# Altium footprint library 排针 - 副本.PCBLIB: 50 footprints (part 3 of 4)
Each footprint in its own frame and in the unit in brackets; x right, y up, seen from the top. Pads: shape width x height; smd on the part's side, far side on the other; paste and mask are expansions set on the pad; w line width, h text height; cw(c..) or ccw(c..) is an arc to the next point about the centre after c.
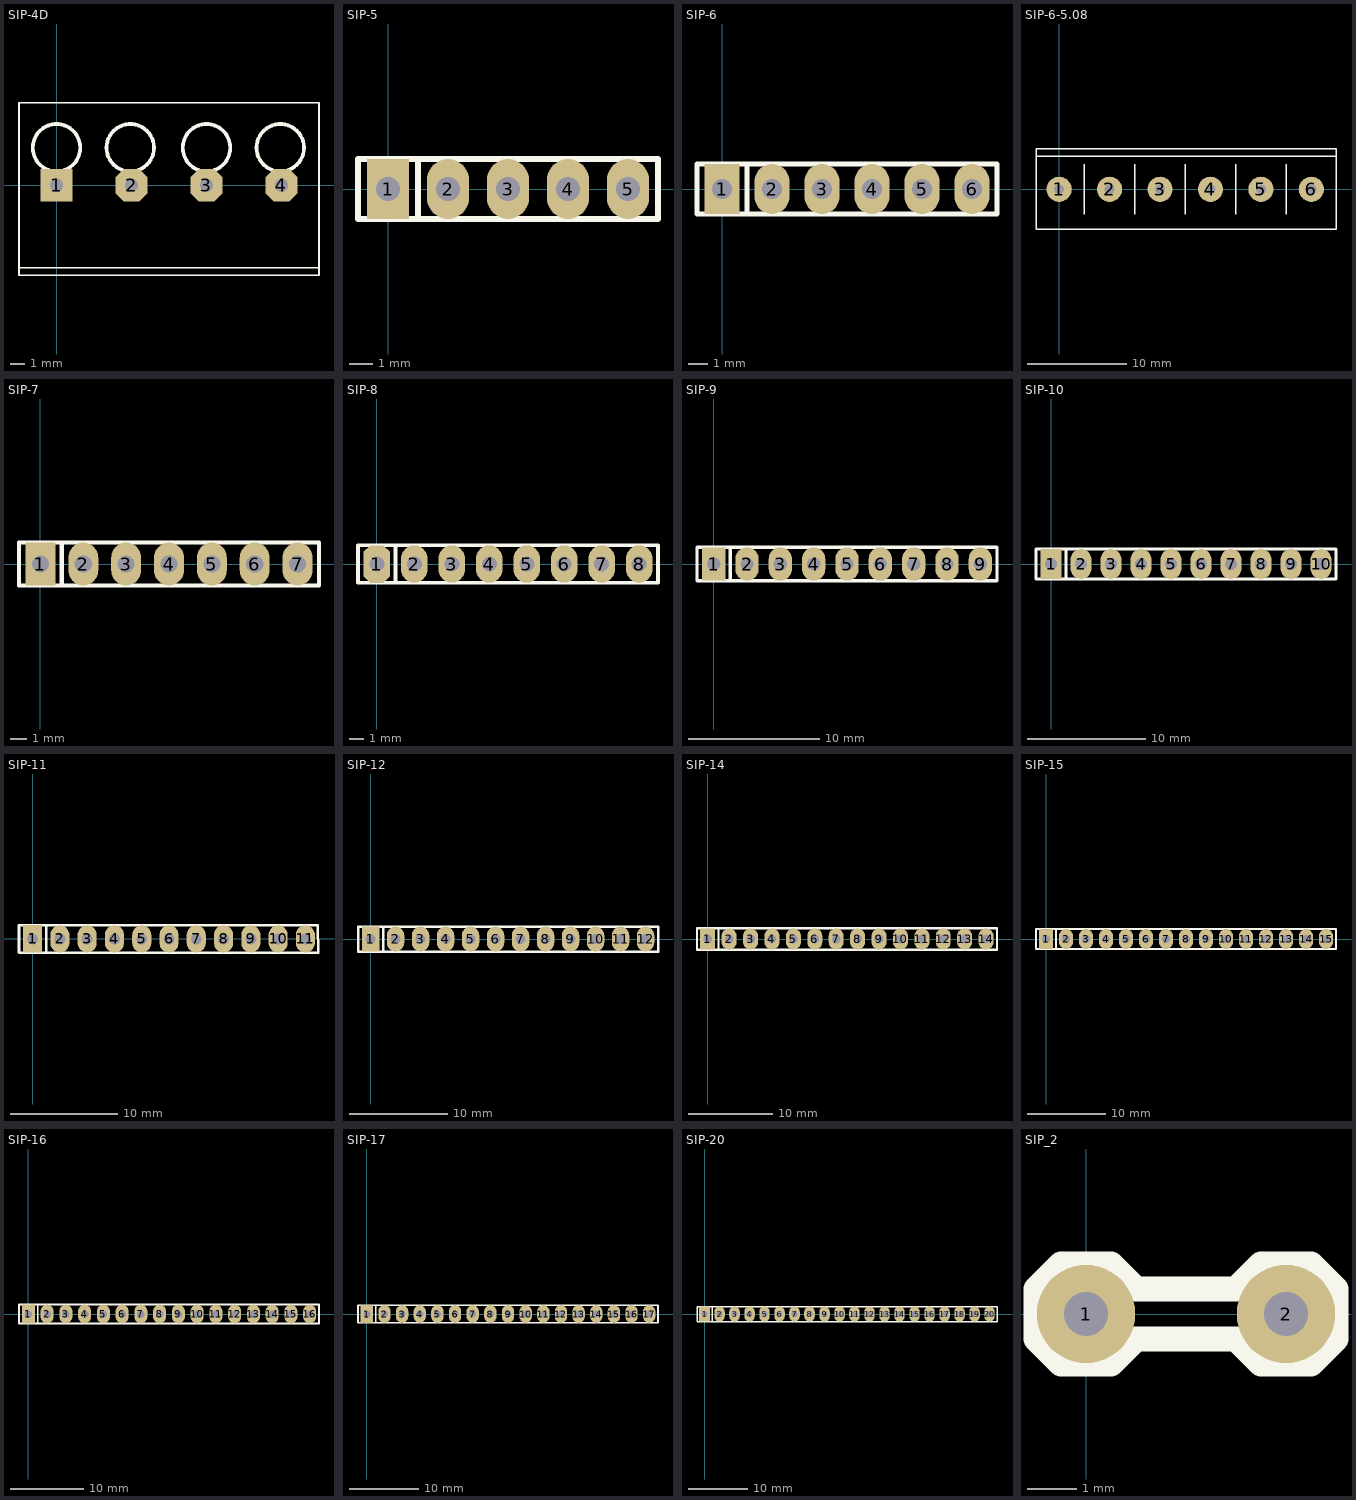
[diagram p2: the footprints below, top view; thin cyan lines are the x and y axes]

## SIP-4D [mm]
pads (4):
  rect 2.2x2.2 hole 0.9: 1(0,0)
  oct 2.2x2.2 hole 0.9: 2(5.08,0) 3(10.16,0) 4(15.24,0)
TopOverlay:
  circle w0.254: c10.16,2.54 r1.606
  circle w0.254: c15.158,2.54 r1.606
  circle w0.254: c0,2.54 r1.606
  circle w0.254: c4.998,2.54 r1.606
  lines w0.127: -2.54,-5.588 -2.54,-6.096 7.62,-6.096 17.78,-6.096 17.78,-5.588 ; -2.54,-5.588 -2.54,5.588 2.54,5.588 7.62,5.588 12.7,5.588 17.78,5.588 17.78,-5.588 ; -2.54,-5.588 7.62,-5.588 17.78,-5.588

## SIP-5 [mil]
pads (5):
  rect 70x100 hole 40: 1(0,0)
  oval 70x100 hole 40: 2(100,0) 3(200,0) 4(300,0) 5(400,0)
TopOverlay:
  lines w10: 50,-50 50,50 ; -50,-50 -50,50 450,50 450,-50 -50,-50

## SIP-6 [mil]
pads (6):
  rect 70x100 hole 40: 1(0,0)
  oval 70x100 hole 40: 2(100,0) 3(200,0) 4(300,0) 5(400,0) 6(500,0)
TopOverlay:
  lines w10: 50,-50 50,50 ; -50,-50 550,-50 550,50 -50,50 -50,-50

## SIP-6-5.08 [mm]
pads (6):
  round 2.54 hole 1: 1(0,0) 2(5.08,0) 3(10.16,0) 4(15.24,0) 5(20.32,0) 6(25.4,0)
TopOverlay:
  lines w0.127: -2.337,3.302 27.889,3.302 ; 2.54,-2.54 2.54,2.54 ; 7.62,-2.54 7.62,2.54 ; 12.7,-2.54 12.7,2.54 ; 17.78,-2.54 17.78,2.54 ; 22.86,-2.54 22.86,2.54 ; -2.337,-4.039 27.889,-4.039 27.889,4.089 -2.337,4.089 -2.337,-4.039

## SIP-7 [mil]
pads (7):
  rect 70x100 hole 40: 1(0,0)
  oval 70x100 hole 40: 2(100,0) 3(200,0) 4(300,0) 5(400,0) 6(500,0) 7(600,0)
TopOverlay:
  lines w10: 50,-50 50,50 ; -50,-50 650,-50 650,50 -50,50 -50,-50

## SIP-8 [mil]
pads (8):
  oct 70x100 hole 40: 1(0,0)
  oval 70x100 hole 40: 2(100,0) 3(200,0) 4(300,0) 5(400,0) 6(500,0) 7(600,0) 8(700,0)
TopOverlay:
  lines w10: 50,-50 50,50 ; -50,-50 750,-50 750,50 -50,50 -50,-50

## SIP-9 [mil]
pads (9):
  rect 70x100 hole 40: 1(0,0)
  oval 70x100 hole 40: 2(100,0) 3(200,0) 4(300,0) 5(400,0) 6(500,0) 7(600,0) 8(700,0) 9(800,0)
TopOverlay:
  lines w10: 50,-50 50,50 ; -50,-50 -50,50 850,50 850,-50 -50,-50

## SIP-10 [mil]
pads (10):
  rect 70x100 hole 40: 1(0,0)
  oval 70x100 hole 40: 2(100,0) 3(200,0) 4(300,0) 5(400,0) 6(500,0) 7(600,0) 8(700,0) 9(800,0) 10(900,0)
TopOverlay:
  lines w10: 50,-50 50,50 ; -50,-50 950,-50 950,50 -50,50 -50,-50

## SIP-11 [mil]
pads (11):
  rect 70x100 hole 40: 1(0,0)
  oval 70x100 hole 40: 2(100,0) 3(200,0) 4(300,0) 5(400,0) 6(500,0) 7(600,0) 8(700,0) 9(800,0) 10(900,0) 11(1000,0)
TopOverlay:
  lines w10: 50,-50 50,50 ; -50,-50 1047,-51 1045,50 -50,50 -50,-50

## SIP-12 [mil]
pads (12):
  rect 70x100 hole 40: 1(0,0)
  oval 70x100 hole 40: 2(100,0) 3(200,0) 4(300,0) 5(400,0) 6(500,0) 7(600,0) 8(700,0) 9(800,0) 10(900,0) 11(1000,0) 12(1100,0)
TopOverlay:
  lines w10: 50,-50 50,50 ; -50,-50 -50,50 1150,50 1150,-50 -50,-50

## SIP-14 [mil]
pads (14):
  rect 70x100 hole 40: 1(0,0)
  oval 70x100 hole 40: 2(100,0) 3(200,0) 4(300,0) 5(400,0) 6(500,0) 7(600,0) 8(700,0) 9(800,0) 10(900,0) 11(1000,0) 12(1100,0) 13(1200,0) 14(1300,0)
TopOverlay:
  lines w10: 50,-50 50,50 ; -50,-50 1351,-50 1351,50 -50,50 -50,-50

## SIP-15 [mil]
pads (15):
  rect 70x100 hole 40: 1(0,0)
  oval 70x100 hole 40: 2(100,0) 3(200,0) 4(300,0) 5(400,0) 6(500,0) 7(600,0) 8(700,0) 9(800,0) 10(900,0) 11(1000,0) 12(1100,0) 13(1200,0) 14(1300,0) 15(1400,0)
TopOverlay:
  lines w10: 50,-50 50,50 ; 1450,50 1450,-51 -50,-50 -50,50 1450,51

## SIP-16 [mil]
pads (16):
  rect 70x100 hole 40: 1(0,0)
  oval 70x100 hole 40: 2(100,0) 3(200,0) 4(300,0) 5(400,0) 6(500,0) 7(600,0) 8(700,0) 9(800,0) 10(900,0) 11(1000,0) 12(1100,0) 13(1200,0) 14(1300,0) 15(1400,0) 16(1500,0)
TopOverlay:
  lines w10: 50,-50 50,50 ; -50,-50 -50,50 1550,50 1550,-50 -50,-50

## SIP-17 [mil]
pads (17):
  rect 70x100 hole 40: 1(0,0)
  oval 70x100 hole 40: 2(100,0) 3(200,0) 4(300,0) 5(400,0) 6(500,0) 7(600,0) 8(700,0) 9(800,0) 10(900,0) 11(1000,0) 12(1100,0) 13(1200,0) 14(1300,0) 15(1400,0) 16(1500,0) 17(1600,0)
TopOverlay:
  lines w10: 50,-50 50,50 ; -50,-50 -50,50 1650,50 1650,-50 -50,-50

## SIP-20 [mil]
pads (20):
  rect 70x100 hole 40: 1(0,0)
  oval 70x100 hole 40: 2(100,0) 3(200,0) 4(300,0) 5(400,0) 6(500,0) 7(600,0) 8(700,0) 9(800,0) 10(900,0) 11(1000,0) 12(1100,0) 13(1200,0) 14(1300,0) 15(1400,0) 16(1500,0) 17(1600,0) 18(1700,0) 19(1800,0) 20(1900,0)
TopOverlay:
  lines w10: 50,-50 50,50 ; -50,-50 -50,50 1950,50 1950,-50 -50,-50

## SIP_2 [mm]
pads (2):
  round 2 hole 0.9: 1(0,0) 2(4.064,0)
TopOverlay:
  lines w0.508: -1.016,-0.508 -0.508,-1.016 0.508,-1.016 1.016,-0.508 3.048,-0.508 3.556,-1.016 4.572,-1.016 5.08,-0.508 5.08,0.508 4.572,1.016 3.556,1.016 3.048,0.508 1.016,0.508 0.508,1.016 -0.508,1.016 -1.016,0.508 -1.016,-0.508